# Altium schematic symbol library CTM1051KT大方块.SCHLIB: 1 symbol
Pins are listed as number, name and electrical type; pins without a type are passive.

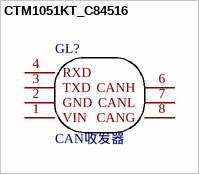
[diagram p0: symbol CTM1051KT_C84516]

## CTM1051KT_C84516
designator GL?, comment Name: CAN收发器  (hidden comment: CTM1051KT)
兼容3.3V和5V的单片机CAN接口，CAN隔离收发器 5V供电; Manufacturer: ZLG(致远电子); Device: CTM1051KT_C84516; Add into BOM: yes; Symbol: CTM1051KT; LCSC Part Name: CAN隔离收发器 5V供电; Supplier Part: C84516; Manufacturer Part: CTM1051KT; Supplier Footprint: DIP-7; JLCPCB Part Class: 扩展库; Datasheet: https://atta.szlcsc.com/upload/public/pdf/source/20161014/1476441644172.pdf; Supplier: LCSC; Convert to PCB: yes
footprint COMM-TH_7P-L19.9-W17.5-P2.54
3D model COMM-TH_7P-L19.9-W17.5-H7.0-P2.54
footprint COMM-TH_7P-L19.9-W17.5-P2.54
footprint COMM-TH_7P-L19.9-W17.5-P2.54
pins: 1 VIN, 2 GND, 3 TXD, 4 RXD, 6 CANH, 7 CANL, 8 CANG